# Altium footprint library BeagleCape.PcbLib: 30 footprints (part 1 of 2)
Each footprint in its own frame and in the unit in brackets; x right, y up, seen from the top. Pads: shape width x height; smd on the part's side, far side on the other; paste and mask are expansions set on the pad; w line width, h text height; cw(c..) or ccw(c..) is an arc to the next point about the centre after c.
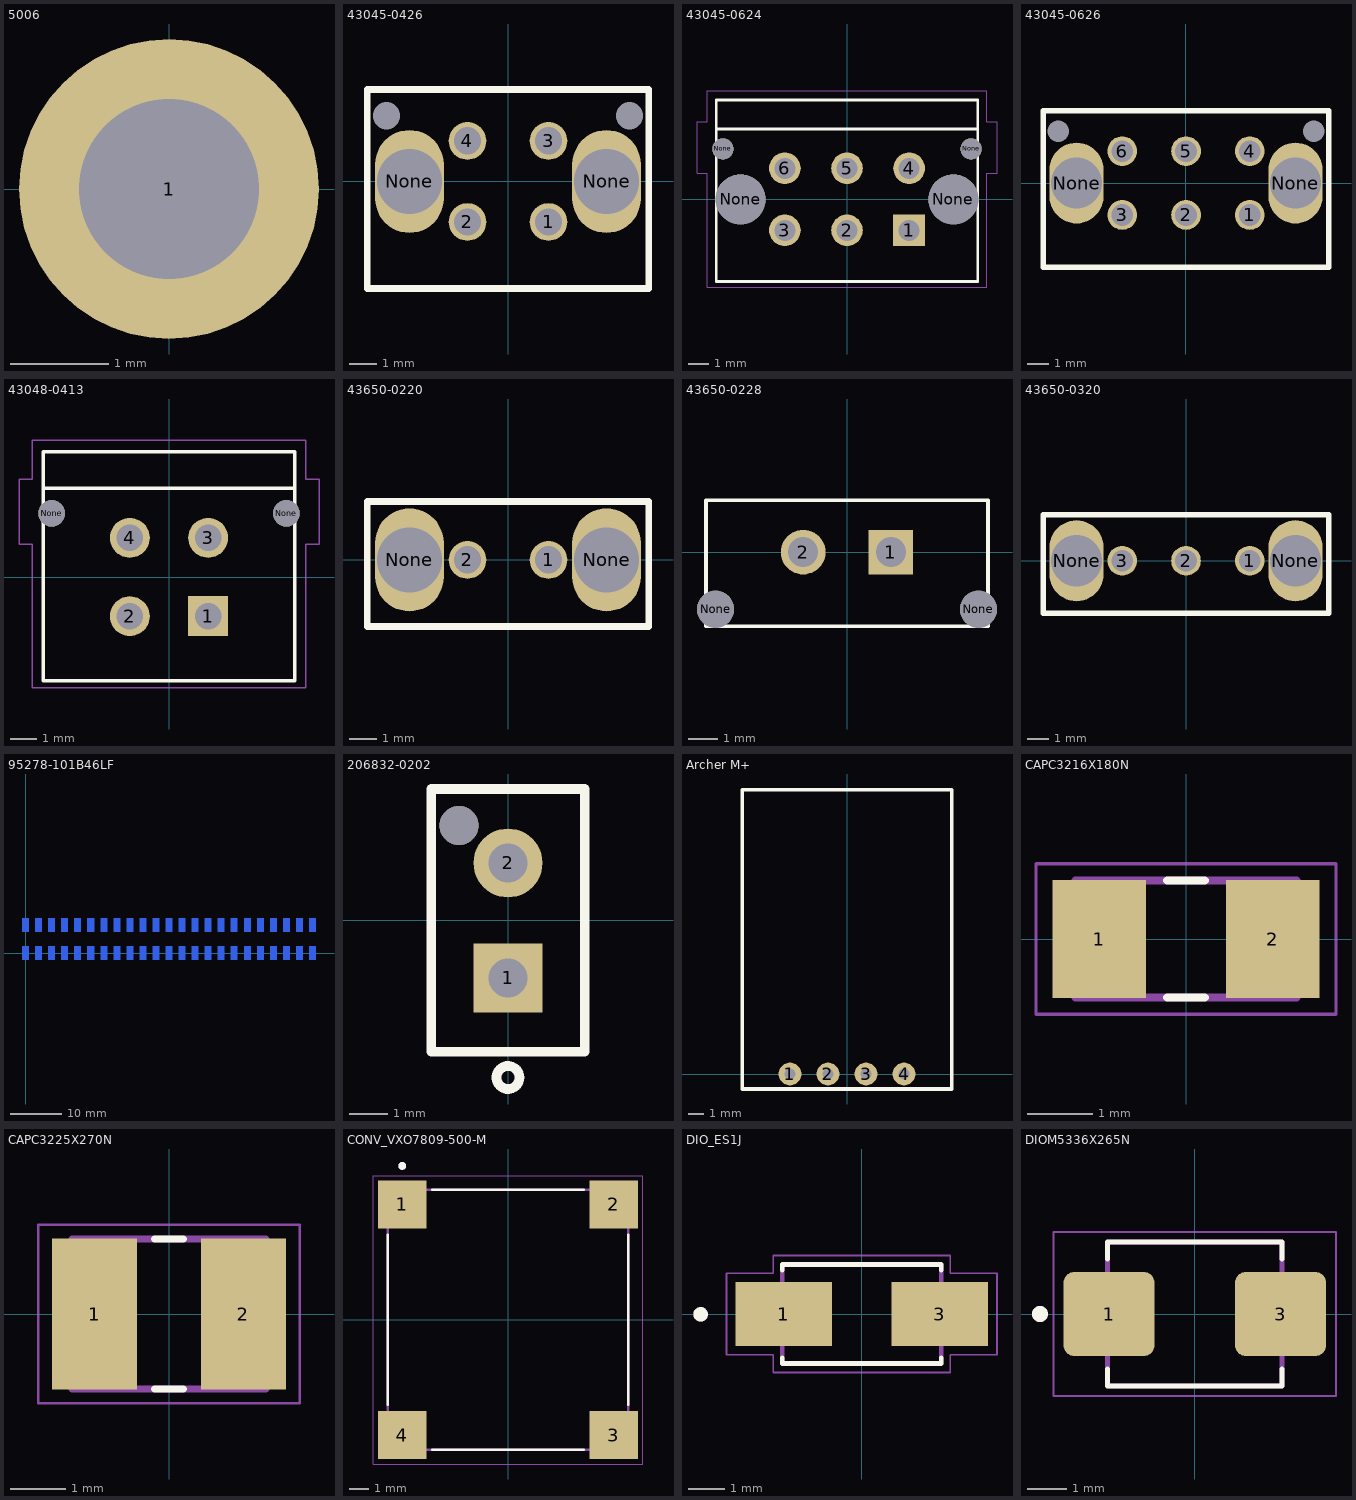
[diagram p0: the footprints below, top view; thin cyan lines are the x and y axes]

## 5006 [mil]
pads (1):
  round 120 hole 72: 1(0,0)

## 43045-0426 [mil]
pads (8):
  round 55 hole 40: 1(59,-59.06) 2(-59,-59.06) 3(59,59.06) 4(-59,59.06)
  round 0 hole 40: None(-177,96) None(177,96)
  oval 100x150 hole 95: None(-143.5,0) None(143.5,0)
Top Overlay:
  lines w10: -205,-156 205,-156 205,134 -205,134 -205,-156

## 43045-0624 [mm]
pads (10):
  rect 1.53x1.53 hole 1.02: 1(3,-1.5)
  round 1.53 hole 1.02: 2(0,-1.5) 3(-3,-1.5) 4(3,1.5) 5(0,1.5) 6(-3,1.5)
  round 1.02 hole 1.02 unplated: None(-6,2.44) None(6,2.44)
  round 2.413 hole 2.413 unplated: None(-5.143,0) None(5.143,0)
Top Overlay:
  lines w0.127: -6.325,3.4 6.325,3.4 ; -6.325,3.4 -6.325,-3.97 6.325,-3.97 6.325,3.4 ; -6.325,3.4 -6.325,4.8 6.325,4.8 6.325,3.4
Mechanical 16:
  lines w0.05: -7.25,1.25 -7.25,3.75 -6.75,3.75 -6.75,5.25 6.75,5.25 6.75,3.75 7.25,3.75 7.25,1.25 6.75,1.25 6.75,-4.25 -6.75,-4.25 -6.75,1.25 -7.25,1.25

## 43045-0626 [mil]
height 390
pads (10):
  round 55 hole 40: 1(118.06,-59.06) 2(0.06,-59.06) 3(-117.94,-59.06) 4(118.06,59.06) 5(0.06,59.06) 6(-117.94,59.06)
  round 0 hole 40: None(-236.06,96) None(236.06,96)
  oval 100x150 hole 95: None(-202.56,0) None(202.56,0)
Top Overlay:
  lines w10: -264.06,-156 264.06,-156 264.06,134 -264.06,134 -264.06,-156

## 43048-0413 [mm]
pads (6):
  rect 1.53x1.53 hole 1.02: 1(1.5,-1.5)
  round 1.53 hole 1.02: 2(-1.5,-1.5) 3(1.5,1.5) 4(-1.5,1.5)
  round 1.02 hole 1.02 unplated: None(-4.5,2.44) None(4.5,2.44)
Top Overlay:
  lines w0.127: -4.825,3.4 -4.825,4.8 4.825,4.8 4.825,3.4 ; -4.825,3.4 -4.825,-3.97 4.825,-3.97 4.825,3.4 ; -4.825,3.4 4.825,3.4
Mechanical 16:
  lines w0.05: -5.75,1.25 -5.25,1.25 -5.25,-4.25 5.25,-4.25 5.25,1.25 5.75,1.25 5.75,3.75 5.25,3.75 5.25,5.25 -5.25,5.25 -5.25,3.75 -5.75,3.75 -5.75,1.25

## 43650-0220 [mil]
pads (4):
  round 55 hole 40: 1(59,0) 2(-59,0)
  oval 100x150 hole 95: None(-143.5,0) None(143.5,0)
Top Overlay:
  lines w10: -205,-97 205,-97 205,85 -205,85 -205,-97

## 43650-0228 [mm]
pads (4):
  rect 1.53x1.53 hole 1.02: 1(1.5,0)
  round 1.53 hole 1.02: 2(-1.5,0)
  round 1.27 hole 1.27 unplated: None(-4.496,-1.956) None(4.496,-1.956)
Top Overlay:
  lines w0.127: -4.826,-2.54 4.826,-2.54 4.826,1.778 -4.826,1.778 -4.826,-2.54

## 43650-0320 [mil]
height 390
pads (5):
  round 55 hole 40: 1(118,0) 2(0,0) 3(-118,0)
  oval 100x150 hole 95: None(-202.5,0) None(202.5,0)
Top Overlay:
  lines w10: -264,-97 -264,85 264,85 264,-97 -264,-97

## 95278-101B46LF [mm]
pads (46):
  rect 1.27x2.54 smd far side: 1(0,0) 2(0,5.46) 3(2.54,0) 4(2.54,5.46) 5(5.08,0) 6(5.08,5.46) 7(7.62,0) 8(7.62,5.46) 9(10.16,0) 10(10.16,5.46) 11(12.7,0) 12(12.7,5.46) 13(15.24,0) 14(15.24,5.46) 15(17.78,0) 16(17.78,5.46) 17(20.32,0) 18(20.32,5.46) 19(22.86,0) 20(22.86,5.46) 21(25.4,0) 22(25.4,5.46) 23(27.94,0) 24(27.94,5.46) 25(30.48,0) 26(30.48,5.46) 27(33.02,0) 28(33.02,5.46) 29(35.56,0) 30(35.56,5.46) 31(38.1,0) 32(38.1,5.46) 33(40.64,0) 34(40.64,5.46) 35(43.18,0) 36(43.18,5.46) 37(45.72,0) 38(45.72,5.46) 39(48.26,0) 40(48.26,5.46) 41(50.8,0) 42(50.8,5.46) 43(53.34,0) 44(53.34,5.46) 45(55.88,0) 46(55.88,5.46)

## 206832-0202 [mm]
pads (2):
  rect 1.8x1.8 hole 1.02: 1(0,-1.5)
  round 1.8 hole 1.02: 2(0,1.5)
via -1.28,2.48 diameter 1.02 hole 1.02
Top Overlay:
  circle w0.254: c0,-4.1 r0.3
  lines w0.254: -2,-3.43 2,-3.43 2,3.43 -2,3.43 -2,-3.43

## Archer M+ [mil]
pads (4):
  round 60 hole 30: 1(-150,0) 2(-50,0) 3(50,0) 4(150,0)
Top Overlay:
  lines w10: -275.59,-39.37 275.59,-39.37 275.59,748.03 -275.59,748.03 -275.59,-39.37
Bottom Solder:
  region: -275,745 275,750 275,50 -275,50

## CAPC3216X180N [mm]
pads (2):
  rect 1.44x1.82 smd: 1(-1.336,0) 2(1.336,0)
Top Overlay:
  lines w0.127: -0.29,-0.9 0.29,-0.9 ; -0.29,0.9 0.29,0.9
Mechanical 13:
  lines w0.127: -1.7,-0.9 -1.7,0.9 1.7,0.9 1.7,-0.9 -1.7,-0.9
Mechanical 15:
  lines w0.05: -2.308,-1.158 -2.308,1.158 2.308,1.158 2.308,-1.158 -2.308,-1.158

## CAPC3225X270N [mm]
pads (2):
  rect 1.53x2.72 smd: 1(-1.341,0) 2(1.341,0)
Top Overlay:
  lines w0.127: -0.26,-1.35 0.26,-1.35 ; -0.26,1.35 0.26,1.35
Mechanical 13:
  lines w0.127: -1.75,-1.35 -1.75,1.35 1.75,1.35 1.75,-1.35 -1.75,-1.35
Mechanical 15:
  lines w0.05: -2.355,-1.608 -2.355,1.608 2.355,1.608 2.355,-1.608 -2.355,-1.608

## CONV_VXO7809-500-M [mm]
pads (4):
  rect 2.5x2.5 smd: 1(-5.5,6) 2(5.5,6) 3(5.5,-6) 4(-5.5,-6)
Top Overlay:
  circle w0.2: c-5.5,8 r0.1
  lines w0.127: -6.25,-4.43 -6.25,4.43 ; -3.93,-6.75 3.93,-6.75 ; -3.93,6.75 3.93,6.75 ; 6.25,-4.43 6.25,4.43
Mechanical 13:
  circle w0.2: c-5.5,8 r0.1
  lines w0.127: -6.25,-6.75 6.25,-6.75 6.25,6.75 -6.25,6.75 -6.25,-6.75
Mechanical 15:
  lines w0.05: -7,-7.5 7,-7.5 7,7.5 -7,7.5 -7,-7.5

## DIO_ES1J [mm]
pads (2):
  rect 2.65x1.75 smd: 1(-2.15,0) 3(2.15,0)
Top Overlay:
  circle w0.2: c-4.44,-0.01 r0.1
  lines w0.127: -2.187,-1.2 -2.187,-1.362 2.187,-1.362 2.187,-1.2 ; -2.187,1.2 -2.187,1.362 2.187,1.362 2.187,1.2
Mechanical 4:
  circle w0.2: c-4.44,-0.01 r0.1
  circle w0.2: c-4.44,-0.01 r0.1
  lines w0.127: -2.187,-1.362 -2.187,1.362 ; -2.187,-1.362 2.187,-1.362 ; -2.187,-1.362 -2.187,1.362 ; -2.187,-1.362 2.187,-1.362 ; -2.187,1.362 2.187,1.362 ; -2.187,1.362 2.187,1.362 ; 2.187,-1.362 2.187,1.362 ; 2.187,-1.362 2.187,1.362
Mechanical 16:
  lines w0.05: -3.725,-1.125 -3.725,1.125 -2.438,1.125 -2.438,1.613 2.438,1.613 2.438,1.125 3.725,1.125 3.725,-1.125 2.438,-1.125 2.438,-1.613 -2.438,-1.613 -2.438,-1.125 -3.725,-1.125

## DIOM5336X265N [mm]
pads (2):
  rrect25% 2.29x2.12 smd: 1(-2.16,0) 3(2.16,0)
Top Overlay:
  circle w0.2: c-3.9,0 r0.1
  lines w0.127: -2.2,-1.38 -2.2,-1.813 2.2,-1.813 2.2,-1.38 ; -2.2,1.38 -2.2,1.813 2.2,1.813 2.2,1.38
Mechanical 13:
  circle w0.2: c-3.9,0 r0.1
  lines w0.127: -2.2,-1.813 -2.2,1.813 2.2,1.813 2.2,-1.813 -2.2,-1.813
Mechanical 15:
  lines w0.05: -3.555,-2.063 -3.555,2.063 3.555,2.063 3.555,-2.063 -3.555,-2.063